# Altium footprint library FootPrintLib_5.PCBLIB: 254 footprints (part 16 of 16)
Each footprint in its own frame and in the unit in brackets; x right, y up, seen from the top. Pads: shape width x height; smd on the part's side, far side on the other; paste and mask are expansions set on the pad; w line width, h text height; cw(c..) or ccw(c..) is an arc to the next point about the centre after c.
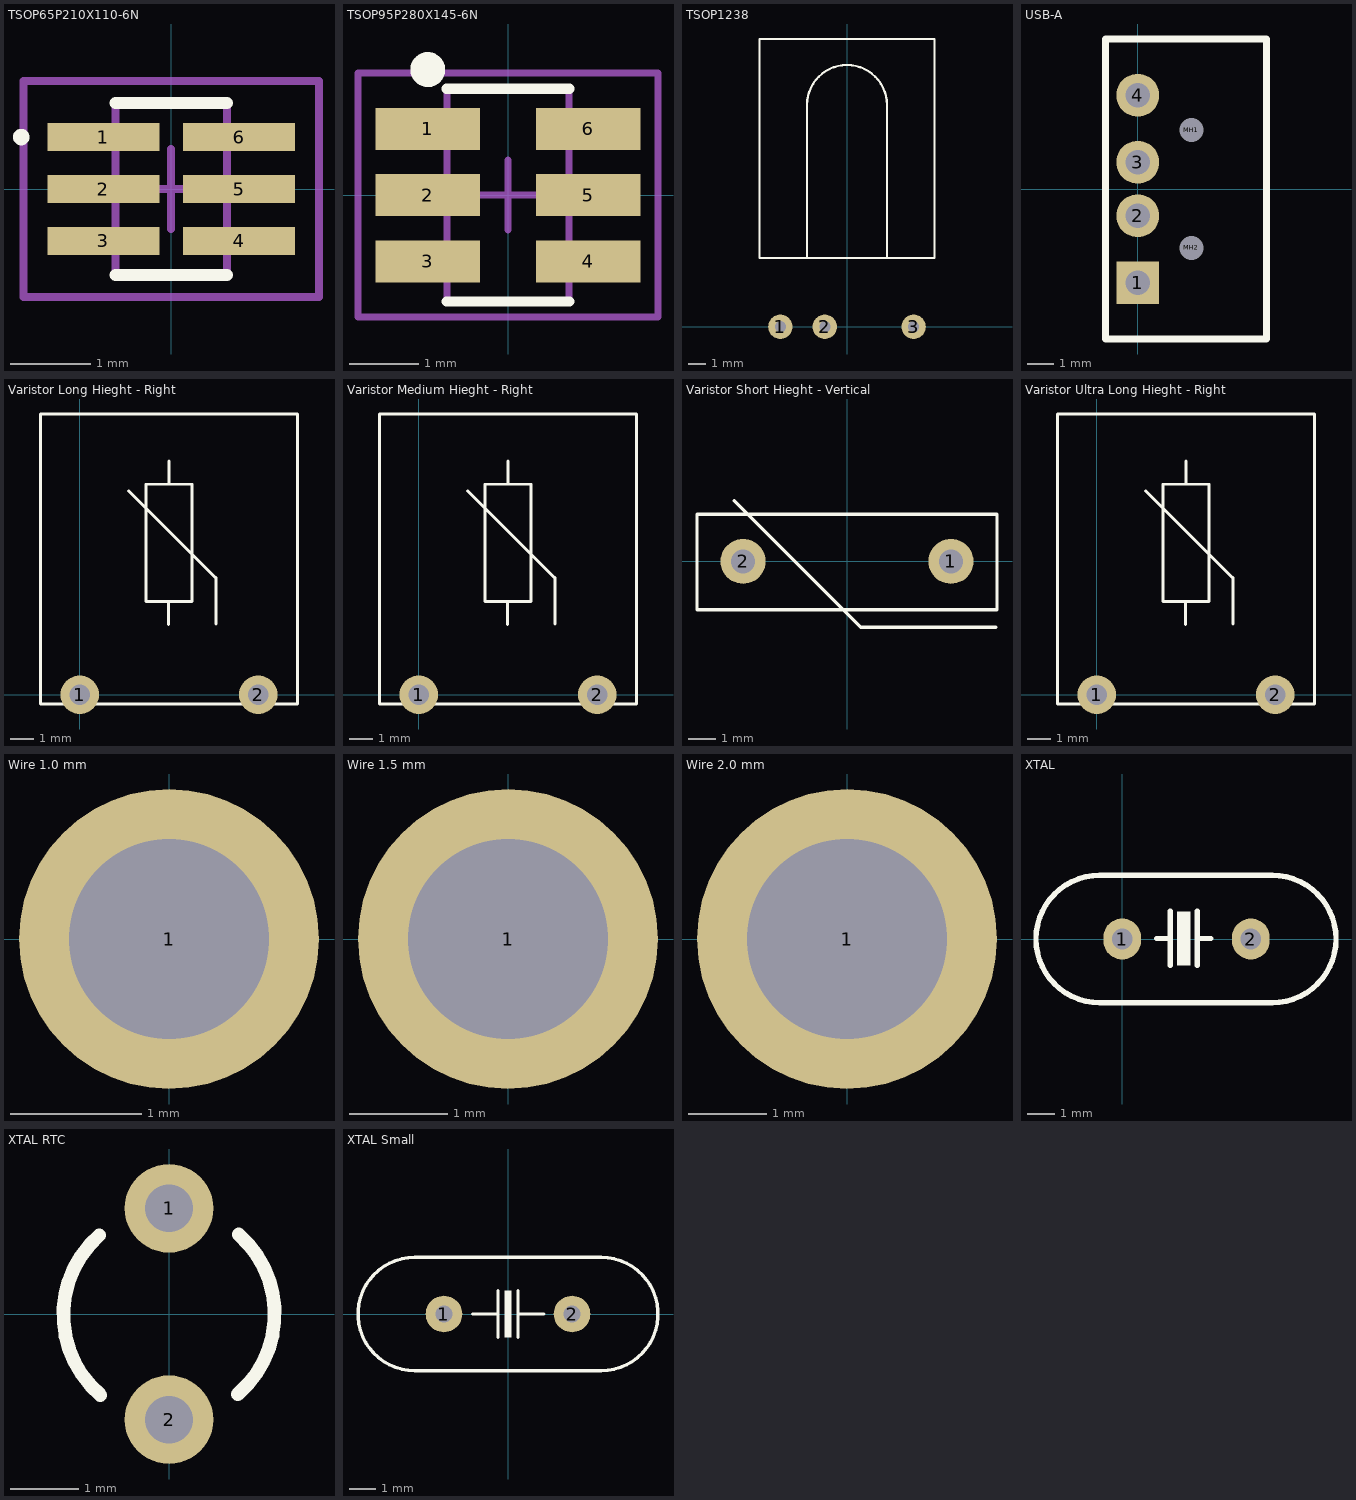
[diagram p15: the footprints below, top view; thin cyan lines are the x and y axes]

## TSOP65P210X110-6N [mm] "TSOP, 6-Leads, Body 2.2x1.4mm (max), Pitch 0.65mm, IPC Medium Density"
height 1.1
pads (6):
  rect 1.4x0.35 smd: 1(-0.85,0.65) 2(-0.85,0) 3(-0.85,-0.65) 4(0.85,-0.65) 5(0.85,0) 6(0.85,0.65)
Top Overlay:
  circle w0.15: c-1.878,0.65 r0.028
  lines w0.15: -0.7,-1.075 0.7,-1.075 ; -0.7,1.075 0.7,1.075
Mechanical 13:
  lines w0.1: -0.7,-1.075 -0.7,1.075 0.7,1.075 0.7,-1.075 -0.7,-1.075
Mechanical 15:
  lines w0.1: -0.5,0 0.5,0 ; 0,-0.5 0,0.5 ; -1.85,-1.35 -1.85,1.35 1.85,1.35 1.85,-1.35 -1.85,-1.35
3D body: height 1.1, standoff 0

## TSOP95P280X145-6N [mm] "TSOP, 6-Leads, Body 3.0x1.8mm (max), Pitch 0.95mm, IPC Medium Density"
height 1.45
pads (6):
  rect 1.5x0.6 smd: 1(-1.15,0.95) 2(-1.15,0) 3(-1.15,-0.95) 4(1.15,-0.95) 5(1.15,0) 6(1.15,0.95)
Top Overlay:
  circle w0.25: c-1.15,1.8 r0.125
  lines w0.15: -0.875,-1.525 0.875,-1.525 ; -0.875,1.525 0.875,1.525
Mechanical 13:
  lines w0.1: -0.875,-1.525 -0.875,1.525 0.875,1.525 0.875,-1.525 -0.875,-1.525
Mechanical 15:
  lines w0.1: -0.5,0 0.5,0 ; 0,-0.5 0,0.5 ; -2.15,-1.75 -2.15,1.75 2.15,1.75 2.15,-1.75 -2.15,-1.75
3D body "User Library-SOT23-6.step": height 1.3, standoff 0, extent -1.5,-1.5 1.5,1.5

## TSOP1238 [mil] "IR Sensor (TV Sensor)"
pads (3):
  round 55 hole 25: 1(-150,0) 2(-50,0) 3(150,0)
Top Overlay:
  lines w5: -90,155 -90,500 cw(c0,500) 90,500 90,155 ; -196.85,155 196.85,155 196.85,648.48 -196.85,648.48 -196.85,155
3D body "TSOP1238_2009.STEP": height 228.35, standoff -84.65, extent -196.85,-9 196.85,648.48

## USB-A [mm]
pads (6):
  rect 1.6x1.6 hole 0.92: 1(0,-3.5)
  round 1.6 hole 0.92: 2(0,-1) 3(0,1) 4(0,3.5)
  round 0.6 hole 0.9: MH1(2,2.2) MH2(2,-2.2)
Top Overlay:
  lines w0.254: -1.2,-5.6 -1.2,5.6 4.8,5.6 4.8,-5.6 -1.2,-5.6

## Varistor Long Hieght - Right [mil] "JVR10N331k With Long Hieght Legs and Right Angle"
pads (2):
  round 65 hole 35: 1(0,0) 2(300,0)
Top Overlay:
  lines w5: 82,343 228,197 229,197 229,119 ; 149,118 149,157 ; 150,354 150,393 ; -66.54,-16 -66.54,472.19 366.54,472.19 366.54,-16 -66.54,-16 ; 111,157 111,354 189,354 189,157 111,157
3D body "JVR10N331k_long_2009.STEP": height 349.69, standoff -98.43, extent -66.54,-16 366.54,472.19

## Varistor Medium Hieght - Right [mil] "JVR10N331k With Medium Hieght Legs and Right Angle"
pads (2):
  round 65 hole 35: 1(0,0) 2(300,0)
Top Overlay:
  lines w5: 82,343 228,197 229,197 229,119 ; 149,118 149,157 ; 150,354 150,393 ; -66.54,-16 -66.54,472.19 366.54,472.19 366.54,-16 -66.54,-16 ; 111,157 111,354 189,354 189,157 111,157
3D body "JVR10N331k_medium_2009.STEP": height 270.7, standoff -98.43, extent -66.54,-16 366.54,472.19

## Varistor Short Hieght - Vertical [mil]
pads (2):
  round 65 hole 35: 1(150,0) 2(-150,0)
Top Overlay:
  lines w5: -162.5,87.5 20,-95 215,-95 ; -216.47,-69.99 -216.47,68.36 216.43,68.36 216.43,-69.99 -216.47,-69.99
3D body "JVR10N331k_vertical.STEP": height 472.44, standoff -98.43, extent -216.47,-69.99 216.43,68.36

## Varistor Ultra Long Hieght - Right [mil] "JVR10N331k With Medium Hieght Legs and Right Angle"
pads (2):
  round 65 hole 35: 1(0,0) 2(300,0)
Top Overlay:
  lines w5: 82,343 228,197 229,197 229,119 ; 149,118 149,157 ; 150,354 150,393 ; -66.54,-16 -66.54,472.19 366.54,472.19 366.54,-16 -66.54,-16 ; 111,157 111,354 189,354 189,157 111,157
3D body "JVR10N331k_untra long_2009.STEP": height 664.15, standoff -98.43, extent -66.54,-16 366.54,472.19

## Wire 1.0 mm [mil]
pads (1):
  round 90 hole 60: 1(0,0)
3D body: height 204.72, standoff 7.87, extent -35.15,-35.36 35.44,35.37
3D body: height 118.11, standoff -78.74, extent -19.53,-19.64 19.69,19.65

## Wire 1.5 mm [mil]
pads (1):
  round 120 hole 80: 1(0,0)
3D body: height 204.72, standoff 7.87, extent -42.96,-43.22 43.31,43.23
3D body: height 118.11, standoff -78.74, extent -29.29,-29.47 29.53,29.47

## Wire 2.0 mm [mm]
pads (1):
  round 3.81 hole 2.54: 1(0,0)
3D body: height 3, standoff -2, extent -0.992,-0.998 1,0.998
3D body: height 5.2, standoff 0.2, extent -1.488,-1.497 1.5,1.497

## XTAL [mil]
height 590.55
pads (2):
  oval 55x60 hole 30: 1(0,0) 2(187.4,0)
Top Overlay:
  rectangle: 79.53,-38.58 99.21,40.16
  lines w7.87: 50,0.79 69.69,0.79 ; 69.69,-38.58 69.69,40.16 ; 109.06,-38.58 109.06,40.16 ; 109.06,0.79 128.74,0.79 ; -32.68,-92.91 cw(c-32.68,0) -32.68,92.91 218.5,92.91 cw(c218.5,0) 218.5,-92.91 -32.68,-92.91
3D body "Part5.STEP": height 514.25, standoff -94.02, extent -130.71,-93.7 316.14,95.28

## XTAL RTC [mm]
pads (2):
  round 1.3 hole 0.7: 1(0,1.55) 2(0,-1.55)
Top Overlay:
  lines w0.2: -1.022,1.155 ccw(c0,-0.01) -1.006,-1.189 ; 1.006,-1.179 ccw(c0,0) 1.022,1.165
3D body "Crystal TH.STEP": height 8.98, standoff -1.8, extent -1.6,-1.725 1.6,1.725

## XTAL Small [mil]
pads (2):
  round 55 hole 25: 1(-96.06,0) 2(96.06,0)
Top Overlay:
  rectangle: -5,-35 5,35
  lines w5: -53,0 -15,0 ; -15,-35 -15,35 ; 15,-35 15,35 ; 15,0 54,0 ; -140,-85 cw(c-140,0) -140,85 140,85 cw(c140,0) 140,-85 -140,-85
3D body "Crystal-3.8mm.STEP": height 140.16, standoff -78.74, extent -226.38,-88.58 226.38,88.58